# EAGLE library part RTL8188ETV (library clonos)
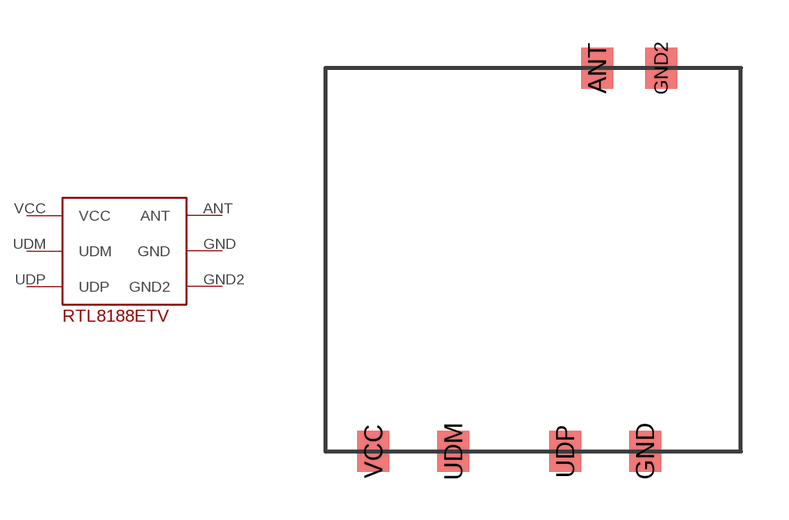
[diagram p0: symbol with the pads of RTL8188ETV; footprint RTL8188ETV]

Designator prefix -

## RTL8188ETV  [RTL8188ETV]
ANT  ANT
GND  GND
GND2  GND2
UDM  UDM
UDP  UDP
VCC  VCC

## Footprint RTL8188ETV (pad centres in mm)
smd 1 x 1.27: ANT 8.5,12; GND 10,0; GND2 10.5,12; UDM 4,0; UDP 7.5,0; VCC 1.5,0